# EAGLE library part SN74CBT3245APWRG4 (library ZMPLC)
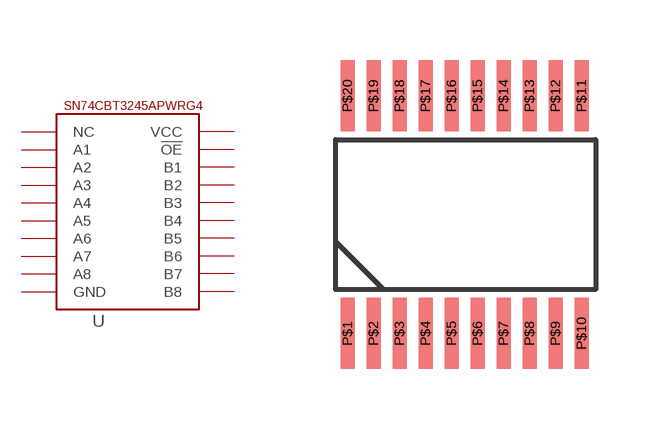
[diagram p3: symbol with the pads of TSSOP20; footprint TSSOP20]

Designator prefix -

## SN74CBT3245APWRG4  [TSSOP20]
P$1  NC
P$2  A1
P$3  A2
P$4  A3
P$5  A4
P$6  A5
P$7  A6
P$8  A7
P$9  A8
P$10  GND  pwr
P$11  B8
P$12  B7
P$13  B6
P$14  B5
P$15  B4
P$16  B3
P$17  B2
P$18  B1
P$19  !OE
P$20  VCC  pwr

## Footprint TSSOP20 (pad centres in mm)
smd 0.35 x 1.78: P$1 0,-5.94; P$2 0.65,-5.94; P$3 1.3,-5.94; P$4 1.95,-5.94; P$5 2.6,-5.94; P$6 3.25,-5.94; P$7 3.9,-5.94; P$8 4.55,-5.94; P$9 5.2,-5.94; P$10 5.85,-5.94; P$11 5.85,0; P$12 5.2,0; P$13 4.55,0; P$14 3.9,0; P$15 3.25,0; P$16 2.6,0; P$17 1.95,0; P$18 1.3,0; P$19 0.65,0; P$20 0,0